# Altium schematic symbol library Trans_Vishay_Siliconix_SI2301BDS-T1-E3_eec.SchLib: 1 symbol
Pins are listed as number, name and electrical type; pins without a type are passive.

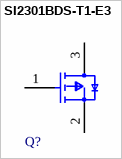
[diagram p0: symbol SI2301BDS-T1-E3]

## SI2301BDS-T1-E3
designator Q?  (value not drawn)
pins: 1 G, 2 S, 3 D